# EAGLE library part PREC08X1 (library con-pinheader-precision)
female precision header
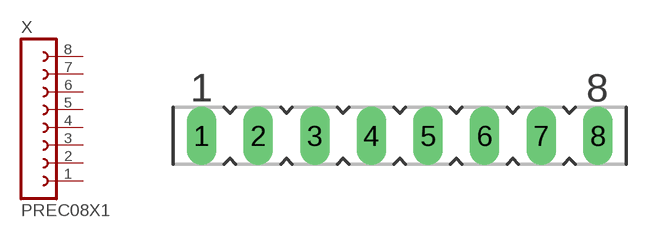
[diagram p37: symbol with the pads of PREC08X1-2.54; footprint PREC08X1-2.54]

Designator prefix X

## PREC08X1-2.54MM (OC_FARNELL: unknown; OC_NEWARK: unknown)  [PREC08X1-2.54]
1  1  pas
2  2  pas
3  3  pas
4  4  pas
5  5  pas
6  6  pas
7  7  pas
8  8  pas

## Footprint PREC08X1-2.54 (pad centres in mm)
female precision header
drill 0.813 long: 1 -8.89,0; 2 -6.35,0; 3 -3.81,0; 4 -1.27,0; 5 1.27,0; 6 3.81,0; 7 6.35,0; 8 8.89,0